# Altium footprint library 电阻贴片.PcbLib: 9 footprints
Each footprint in its own frame and in the unit in brackets; x right, y up, seen from the top. Pads: shape width x height; smd on the part's side, far side on the other; paste and mask are expansions set on the pad; w line width, h text height; cw(c..) or ccw(c..) is an arc to the next point about the centre after c.
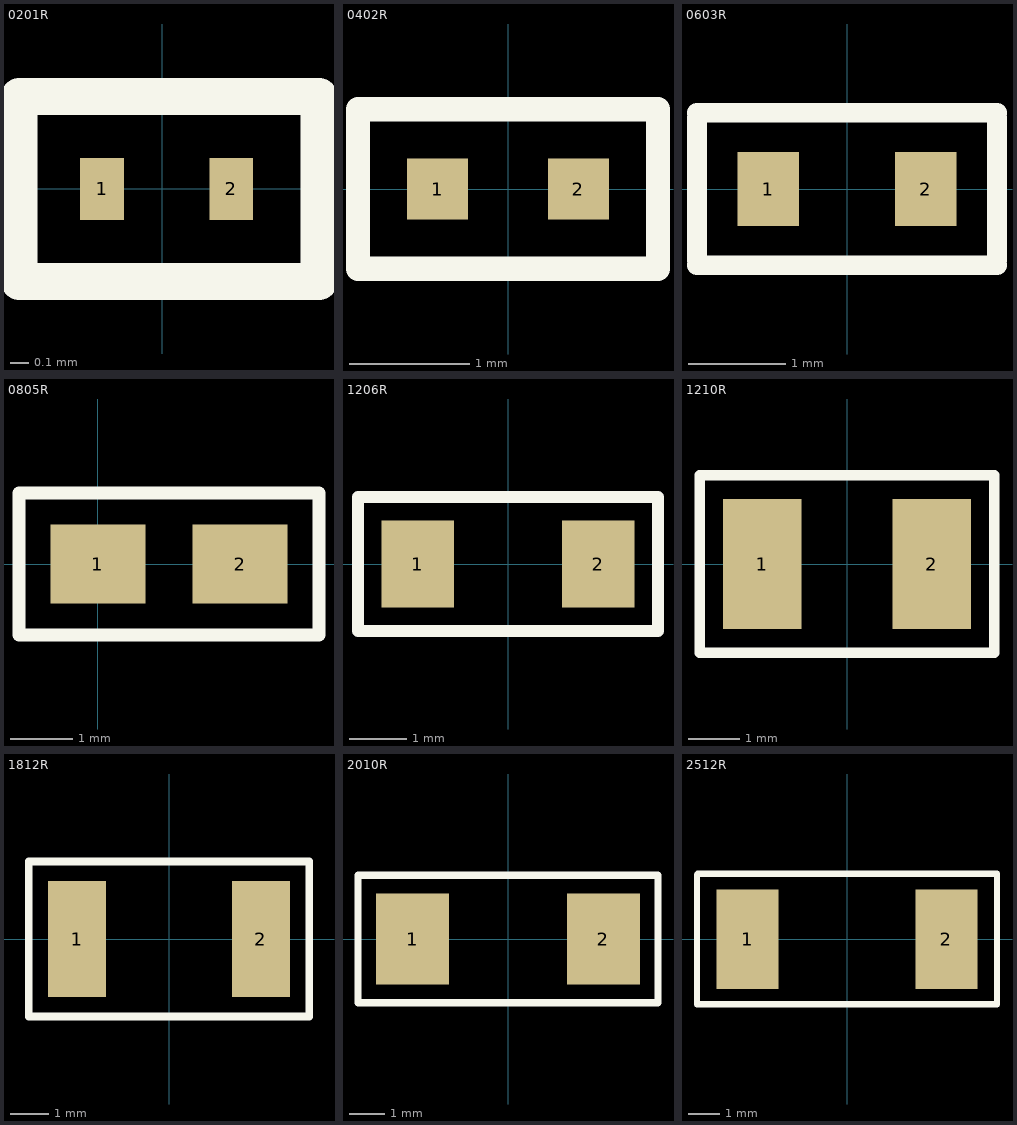
[diagram p0: the footprints below, top view; thin cyan lines are the x and y axes]

## 0201R [mil]
pads (2):
  rect 9.5x13.5 smd: 1(-13,0) 2(15,0)
Top Overlay:
  lines w7.99: -31,-20 -31,20 34,20 34,-20 -31,-20
3D body "RESC0603(0201).STEP": height 9.84, standoff -0.39, extent -10.81,-5.9 12.82,5.91

## 0402R [mil]
pads (2):
  rect 20x20 smd: 1(-23,0) 2(23,0)
Top Overlay:
  lines w8: -49,-26 15,-26 49,-26 49,26 15,26 -49,26 -49,-26
3D body "R0402.STEP": height 13.78, standoff 0, extent -19.68,-9.84 19.69,9.85

## 0603R [mil]
pads (2):
  rect 25x30 smd: 1(-32,0) 2(32,0)
Top Overlay:
  lines w8: -61,-31 13,-31 61,-31 ; -61,-29 -61,29 ; -61,31 13,31 61,31 ; 61,-29 61,29
3D body "R0603.STEP": height 17.72, standoff 0, extent -32.49,-15.74 30.5,15.75

## 0805R [mil]
pads (2):
  rect 60x50 smd: 1(0,0) 2(90,0)
Top Overlay:
  lines w8: -50,-45 -50,45 65,45 140,45 140,-45 65,-45 -50,-45
3D body "R0805.STEP": height 21.65, standoff 0, extent 4.64,-24.8 83.37,24.81

## 1206R [mil]
pads (2):
  rect 50x60 smd: 1(-62,0) 2(62,0)
Top Overlay:
  lines w8: -103,-46 -103,46 40,46 103,46 103,-46 40,-46 -103,-46
3D body "R1206.STEP": height 23.62, standoff 0, extent -63.98,-32.49 62,30.51

## 1210R [mil]
pads (2):
  rect 60x100 smd: 1(-65,0) 2(65,0)
Top Overlay:
  lines w8: -113,-68 40,-68 113,-68 113,68 40,68 -113,68 -113,-68
3D body "RESC3225(1210).STEP": height 23.62, standoff 0, extent -62.99,-50.21 63,48.22

## 1812R [mil]
pads (2):
  rect 60x120 smd: 1(-95,0) 2(95,0)
Top Overlay:
  lines w8: -145,-80 -145,80 70,80 145,80 145,-80 70,-80 -145,-80
3D body "RESC4532(1812).STEP": height 27.56, standoff 0, extent -90.58,-62.99 86.59,63

## 2010R [mil]
pads (2):
  rect 80x100 smd: 1(-105,0) 2(105,0)
Top Overlay:
  lines w8: -165,-70 70,-70 165,-70 165,70 70,70 -165,70 -165,-70
3D body "RESC5025(2010).STEP": height 25.59, standoff 0, extent -97.42,-50.21 99.43,48.22

## 2512R [mm]
pads (2):
  rect 2x3.2 smd: 1(-3.2,0) 2(3.2,0)
Top Overlay:
  lines w0.203: -4.826,2.083 -4.826,-2.083 4.826,-2.083 4.826,2.108 -4.801,2.108
3D body "RESC6432(2512).STEP": height 0.7, standoff 0, extent -3.2,-1.625 3.2,1.575